# Altium integrated library Elantec Analog Comparator.IntLib: 16 symbols
Pins are listed as number, name and electrical type; pins without a type are passive.

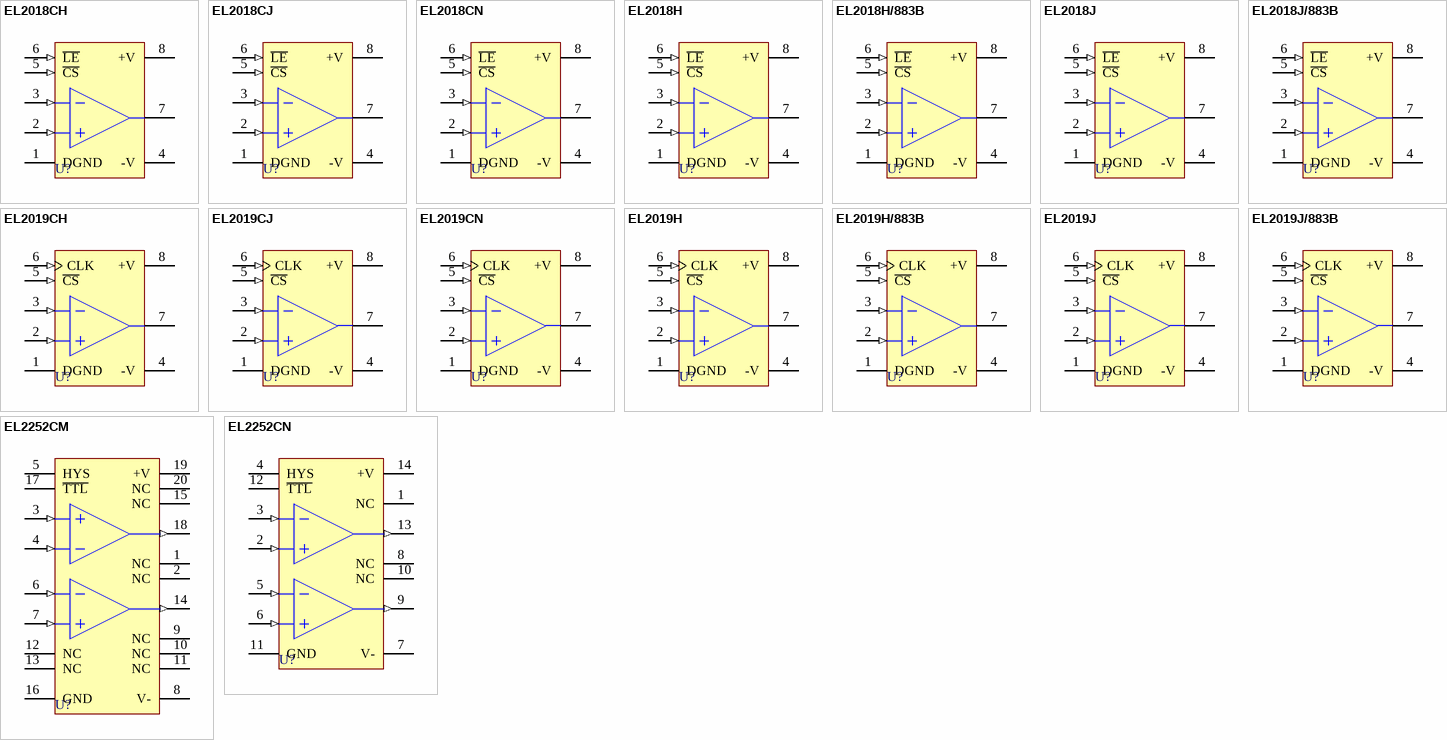
[diagram p0: symbols EL2018CH to EL2252CN]

## EL2018CH
designator U?
Fast, High Voltage Comparator with Transparent Latch; Published: 8-Jun-2000; LatestRevisionDate: 17-Jul-2002; LatestRevisionNote: Re-released for DXP Platform.; DatasheetVersion: Jul-1992; PackageVersion: 1993; PackageReference: MDP0004; Publisher: Altium Limited; PackageDescription: Can; 8 Leads; Pin Circle Dia. 5.08 mm; Lead Dia. 0.53 mm (max); ComponentLink1Description: Manufacturer Link; ComponentLink1URL: http://www.intersil.com/cda/home/
footprint MDP0004 (Can; 8 Leads; Pin Circle Dia. 5.08 mm; Lead Dia. 0.53 mm (max))
simulation model EL2018 (SUBCKT)
pins: 1 DGND (power), 2 +IN (in), 3 -IN (in), 4 -V (power), 5 ~{CS} (in), 6 ~{LE} (in), 7 OUT (hiz), 8 +V (power)

## EL2018CJ
designator U?
Fast, High Voltage Comparator with Transparent Latch; Published: 8-Jun-2000; LatestRevisionDate: 04-Mar-2005; LatestRevisionNote: Stylized 3D Model Added.; DatasheetVersion: Jul-1992; PackageReference: MDP0010; Publisher: Altium Limited; PackageDescription: DIP; 8 Leads; Row Spacing 7.62 mm; Pitch 2.54 mm; ComponentLink1Description: Manufacturer Link; ComponentLink1URL: http://www.intersil.com/cda/home/
footprint MDP0010 (DIP; 8 Leads; Row Spacing 7.62 mm; Pitch 2.54 mm)
3D model MDP0010 (DIP; 8 Leads; Row Spacing 7.62 mm; Pitch 2.54 mm)
simulation model EL2018 (SUBCKT)
pins: 1 DGND (power), 2 +IN (in), 3 -IN (in), 4 -V (power), 5 ~{CS} (in), 6 ~{LE} (in), 7 OUT (hiz), 8 +V (power)

## EL2018CN
designator U?
Fast, High Voltage Comparator with Transparent Latch; Published: 8-Jun-2000; LatestRevisionDate: 17-Jul-2002; LatestRevisionNote: Re-released for DXP Platform.; DatasheetVersion: Dec-1995; PackageReference: MDP0031-8; Publisher: Altium Limited; PackageDescription: DIP; 8 Leads; Row Spacing 7.62 mm; Pitch 2.54 mm; ComponentLink1Description: Manufacturer Link; ComponentLink1URL: http://www.intersil.com/cda/home/
footprint MDP0031-8 (DIP; 8 Leads; Row Spacing 7.62 mm; Pitch 2.54 mm)
simulation model EL2018 (SUBCKT)
pins: 1 DGND (power), 2 +IN (in), 3 -IN (in), 4 -V (power), 5 ~{CS} (in), 6 ~{LE} (in), 7 OUT (hiz), 8 +V (power)

## EL2018H
designator U?
Fast, High Voltage Comparator with Transparent Latch; Published: 8-Jun-2000; LatestRevisionDate: 17-Jul-2002; LatestRevisionNote: Re-released for DXP Platform.; DatasheetVersion: Jul-1992; PackageVersion: 1993; PackageReference: MDP0004; Publisher: Altium Limited; PackageDescription: Can; 8 Leads; Pin Circle Dia. 5.08 mm; Lead Dia. 0.53 mm (max); ComponentLink1Description: Manufacturer Link; ComponentLink1URL: http://www.intersil.com/cda/home/
footprint MDP0004 (Can; 8 Leads; Pin Circle Dia. 5.08 mm; Lead Dia. 0.53 mm (max))
simulation model EL2018 (SUBCKT)
pins: 1 DGND (power), 2 +IN (in), 3 -IN (in), 4 -V (power), 5 ~{CS} (in), 6 ~{LE} (in), 7 OUT (hiz), 8 +V (power)

## EL2018H/883B
designator U?
Fast, High Voltage Comparator with Transparent Latch; Published: 8-Jun-2000; LatestRevisionDate: 17-Jul-2002; LatestRevisionNote: Re-released for DXP Platform.; DatasheetVersion: Jul-1992; PackageVersion: 1993; PackageReference: MDP0004; Publisher: Altium Limited; PackageDescription: Can; 8 Leads; Pin Circle Dia. 5.08 mm; Lead Dia. 0.53 mm (max); ComponentLink1Description: Manufacturer Link; ComponentLink1URL: http://www.intersil.com/cda/home/
footprint MDP0004 (Can; 8 Leads; Pin Circle Dia. 5.08 mm; Lead Dia. 0.53 mm (max))
simulation model EL2018 (SUBCKT)
pins: 1 DGND (power), 2 +IN (in), 3 -IN (in), 4 -V (power), 5 ~{CS} (in), 6 ~{LE} (in), 7 OUT (hiz), 8 +V (power)

## EL2018J
designator U?
Fast, High Voltage Comparator with Transparent Latch; Published: 8-Jun-2000; LatestRevisionDate: 04-Mar-2005; LatestRevisionNote: Stylized 3D Model Added.; DatasheetVersion: Jul-1992; PackageReference: MDP0010; Publisher: Altium Limited; PackageDescription: DIP; 8 Leads; Row Spacing 7.62 mm; Pitch 2.54 mm; ComponentLink1Description: Manufacturer Link; ComponentLink1URL: http://www.intersil.com/cda/home/
footprint MDP0010 (DIP; 8 Leads; Row Spacing 7.62 mm; Pitch 2.54 mm)
3D model MDP0010 (DIP; 8 Leads; Row Spacing 7.62 mm; Pitch 2.54 mm)
simulation model EL2018 (SUBCKT)
pins: 1 DGND (power), 2 +IN (in), 3 -IN (in), 4 -V (power), 5 ~{CS} (in), 6 ~{LE} (in), 7 OUT (hiz), 8 +V (power)

## EL2018J/883B
designator U?
Fast, High Voltage Comparator with Transparent Latch; Published: 8-Jun-2000; LatestRevisionDate: 04-Mar-2005; LatestRevisionNote: Stylized 3D Model Added.; DatasheetVersion: Jul-1992; PackageReference: MDP0010; Publisher: Altium Limited; PackageDescription: DIP; 8 Leads; Row Spacing 7.62 mm; Pitch 2.54 mm; ComponentLink1Description: Manufacturer Link; ComponentLink1URL: http://www.intersil.com/cda/home/
footprint MDP0010 (DIP; 8 Leads; Row Spacing 7.62 mm; Pitch 2.54 mm)
3D model MDP0010 (DIP; 8 Leads; Row Spacing 7.62 mm; Pitch 2.54 mm)
simulation model EL2018 (SUBCKT)
pins: 1 DGND (power), 2 +IN (in), 3 -IN (in), 4 -V (power), 5 ~{CS} (in), 6 ~{LE} (in), 7 OUT (hiz), 8 +V (power)

## EL2019CH
designator U?
Fast, High Voltage Comparator with Master Slave Flip-Flop; Published: 8-Jun-2000; LatestRevisionDate: 17-Jul-2002; LatestRevisionNote: Re-released for DXP Platform.; DatasheetVersion: Jul-1992; PackageVersion: 1993; PackageReference: MDP0004; Publisher: Altium Limited; PackageDescription: Can; 8 Leads; Pin Circle Dia. 5.08 mm; Lead Dia. 0.53 mm (max); ComponentLink1Description: Manufacturer Link; ComponentLink1URL: http://www.intersil.com/cda/home/
footprint MDP0004 (Can; 8 Leads; Pin Circle Dia. 5.08 mm; Lead Dia. 0.53 mm (max))
simulation model EL2019 (SUBCKT)
pins: 1 DGND (power), 2 +IN (in), 3 -IN (in), 4 -V (power), 5 ~{CS} (in), 6 CLK (in), 7 OUT (hiz), 8 +V (power)

## EL2019CJ
designator U?
Fast, High Voltage Comparator with Master Slave Flip-Flop; Published: 8-Jun-2000; LatestRevisionDate: 04-Mar-2005; LatestRevisionNote: Stylized 3D Model Added.; DatasheetVersion: Jul-1992; PackageReference: MDP0010; Publisher: Altium Limited; PackageDescription: DIP; 8 Leads; Row Spacing 7.62 mm; Pitch 2.54 mm; ComponentLink1Description: Manufacturer Link; ComponentLink1URL: http://www.intersil.com/cda/home/
footprint MDP0010 (DIP; 8 Leads; Row Spacing 7.62 mm; Pitch 2.54 mm)
3D model MDP0010 (DIP; 8 Leads; Row Spacing 7.62 mm; Pitch 2.54 mm)
simulation model EL2019 (SUBCKT)
pins: 1 DGND (power), 2 +IN (in), 3 -IN (in), 4 -V (power), 5 ~{CS} (in), 6 CLK (in), 7 OUT (hiz), 8 +V (power)

## EL2019CN
designator U?
Fast, High Voltage Comparator with Master Slave Flip-Flop; Published: 8-Jun-2000; LatestRevisionDate: 17-Jul-2002; LatestRevisionNote: Re-released for DXP Platform.; DatasheetVersion: Dec-1995; PackageReference: MDP0006; Publisher: Altium Limited; PackageDescription: DIP; 8 Leads; Row Spacing 7.62 mm; Pitch 2.54 mm; ComponentLink1Description: Manufacturer Link; ComponentLink1URL: http://www.intersil.com/cda/home/
footprint MDP0006 (DIP; 8 Leads; Row Spacing 7.62 mm; Pitch 2.54 mm)
simulation model EL2019 (SUBCKT)
pins: 1 DGND (power), 2 +IN (in), 3 -IN (in), 4 -V (power), 5 ~{CS} (in), 6 CLK (in), 7 OUT (hiz), 8 +V (power)

## EL2019H
designator U?
Fast, High Voltage Comparator with Master Slave Flip-Flop; Published: 8-Jun-2000; LatestRevisionDate: 17-Jul-2002; LatestRevisionNote: Re-released for DXP Platform.; DatasheetVersion: Jul-1992; PackageVersion: 1993; PackageReference: MDP0004; Publisher: Altium Limited; PackageDescription: Can; 8 Leads; Pin Circle Dia. 5.08 mm; Lead Dia. 0.53 mm (max); ComponentLink1Description: Manufacturer Link; ComponentLink1URL: http://www.intersil.com/cda/home/
footprint MDP0004 (Can; 8 Leads; Pin Circle Dia. 5.08 mm; Lead Dia. 0.53 mm (max))
simulation model EL2019 (SUBCKT)
pins: 1 DGND (power), 2 +IN (in), 3 -IN (in), 4 -V (power), 5 ~{CS} (in), 6 CLK (in), 7 OUT (hiz), 8 +V (power)

## EL2019H/883B
designator U?
Fast, High Voltage Comparator with Master Slave Flip-Flop; Published: 8-Jun-2000; LatestRevisionDate: 17-Jul-2002; LatestRevisionNote: Re-released for DXP Platform.; DatasheetVersion: Jul-1992; PackageVersion: 1993; PackageReference: MDP0004; Publisher: Altium Limited; PackageDescription: Can; 8 Leads; Pin Circle Dia. 5.08 mm; Lead Dia. 0.53 mm (max); ComponentLink1Description: Manufacturer Link; ComponentLink1URL: http://www.intersil.com/cda/home/
footprint MDP0004 (Can; 8 Leads; Pin Circle Dia. 5.08 mm; Lead Dia. 0.53 mm (max))
simulation model EL2019 (SUBCKT)
pins: 1 DGND (power), 2 +IN (in), 3 -IN (in), 4 -V (power), 5 ~{CS} (in), 6 CLK (in), 7 OUT (hiz), 8 +V (power)

## EL2019J
designator U?
Fast, High Voltage Comparator with Master Slave Flip-Flop; Published: 8-Jun-2000; LatestRevisionDate: 04-Mar-2005; LatestRevisionNote: Stylized 3D Model Added.; DatasheetVersion: Jul-1992; PackageReference: MDP0010; Publisher: Altium Limited; PackageDescription: DIP; 8 Leads; Row Spacing 7.62 mm; Pitch 2.54 mm; ComponentLink1Description: Manufacturer Link; ComponentLink1URL: http://www.intersil.com/cda/home/
footprint MDP0010 (DIP; 8 Leads; Row Spacing 7.62 mm; Pitch 2.54 mm)
3D model MDP0010 (DIP; 8 Leads; Row Spacing 7.62 mm; Pitch 2.54 mm)
simulation model EL2019 (SUBCKT)
pins: 1 DGND (power), 2 +IN (in), 3 -IN (in), 4 -V (power), 5 ~{CS} (in), 6 CLK (in), 7 OUT (hiz), 8 +V (power)

## EL2019J/883B
designator U?
Fast, High Voltage Comparator with Master Slave Flip-Flop; Published: 8-Jun-2000; LatestRevisionDate: 04-Mar-2005; LatestRevisionNote: Stylized 3D Model Added.; DatasheetVersion: Jul-1992; PackageReference: MDP0010; Publisher: Altium Limited; PackageDescription: DIP; 8 Leads; Row Spacing 7.62 mm; Pitch 2.54 mm; ComponentLink1Description: Manufacturer Link; ComponentLink1URL: http://www.intersil.com/cda/home/
footprint MDP0010 (DIP; 8 Leads; Row Spacing 7.62 mm; Pitch 2.54 mm)
3D model MDP0010 (DIP; 8 Leads; Row Spacing 7.62 mm; Pitch 2.54 mm)
simulation model EL2019 (SUBCKT)
pins: 1 DGND (power), 2 +IN (in), 3 -IN (in), 4 -V (power), 5 ~{CS} (in), 6 CLK (in), 7 OUT (hiz), 8 +V (power)

## EL2252CM
designator U?
Dual 50 MHz Comparator / Pin Receiver; Note: Pins 1,2,9-13,15,20 are No Connection; Published: 8-Jun-2000; LatestRevisionDate: 13-Apr-2006; LatestRevisionNote: IPC-7351 Footprint Added.; DatasheetVersion: Dec-1995; PackageReference: SOL-20; Publisher: Altium Limited; PackageDescription: 20-Pin Small Outline Integrated Circuit 1.27 mm Pitch; ComponentLink1Description: Manufacturer Link; ComponentLink1URL: http://www.intersil.com/cda/home/
footprint SOL-20_N (SOIC, 20-Leads, Body 12.8x7.5mm, Pitch 1.27mm, IPC Medium Density)
footprint SOL-20_L (SOIC, 20-Leads, Body 12.8x7.5mm, Pitch 1.27mm, IPC High Density)
footprint SOL-20_M (SOIC, 20-Leads, Body 12.8x7.5mm, Pitch 1.27mm, IPC Low Density)
3D model SOL-20 (20-Pin Small Outline Integrated Circuit 1.27 mm Pitch)
simulation model EL2252 (SUBCKT)
pins: 1 NC, 2 NC, 3 +IN1 (in), 4 -IN1 (in), 5 HYS, 6 -IN2 (in), 7 +IN2 (in), 8 V- (power), 9 NC, 10 NC, 11 NC, 12 NC, 13 NC, 14 OUT2 (out), 15 NC, 16 GND (power), 17 ~{TTL}, 18 OUT1 (out), 19 +V (power), 20 NC

## EL2252CN
designator U?
Dual 50 MHz Comparator / Pin Receiver; Note: Pins 1,8,10 are No Connection; Published: 8-Jun-2000; LatestRevisionDate: 04-Mar-2005; LatestRevisionNote: Stylized 3D Model Added.; DatasheetVersion: Dec-1995; PackageReference: MDP0031-14; Publisher: Altium Limited; PackageDescription: DIP; 14 Leads; Row Spacing 7.62 mm; Pitch 2.54 mm; ComponentLink1Description: Manufacturer Link; ComponentLink1URL: http://www.intersil.com/cda/home/
footprint MDP0031-14 (DIP; 14 Leads; Row Spacing 7.62 mm; Pitch 2.54 mm)
3D model MDP0031-14 (DIP; 14 Leads; Row Spacing 7.62 mm; Pitch 2.54 mm)
simulation model EL2252 (SUBCKT)
pins: 1 NC, 2 +IN1 (in), 3 -IN1 (in), 4 HYS, 5 -IN2 (in), 6 +IN2 (in), 7 V- (power), 8 NC, 9 OUT2 (out), 10 NC, 11 GND (power), 12 ~{TTL}, 13 OUT1 (out), 14 +V (power)